# EAGLE library part 120P-BTB (library Traficon)
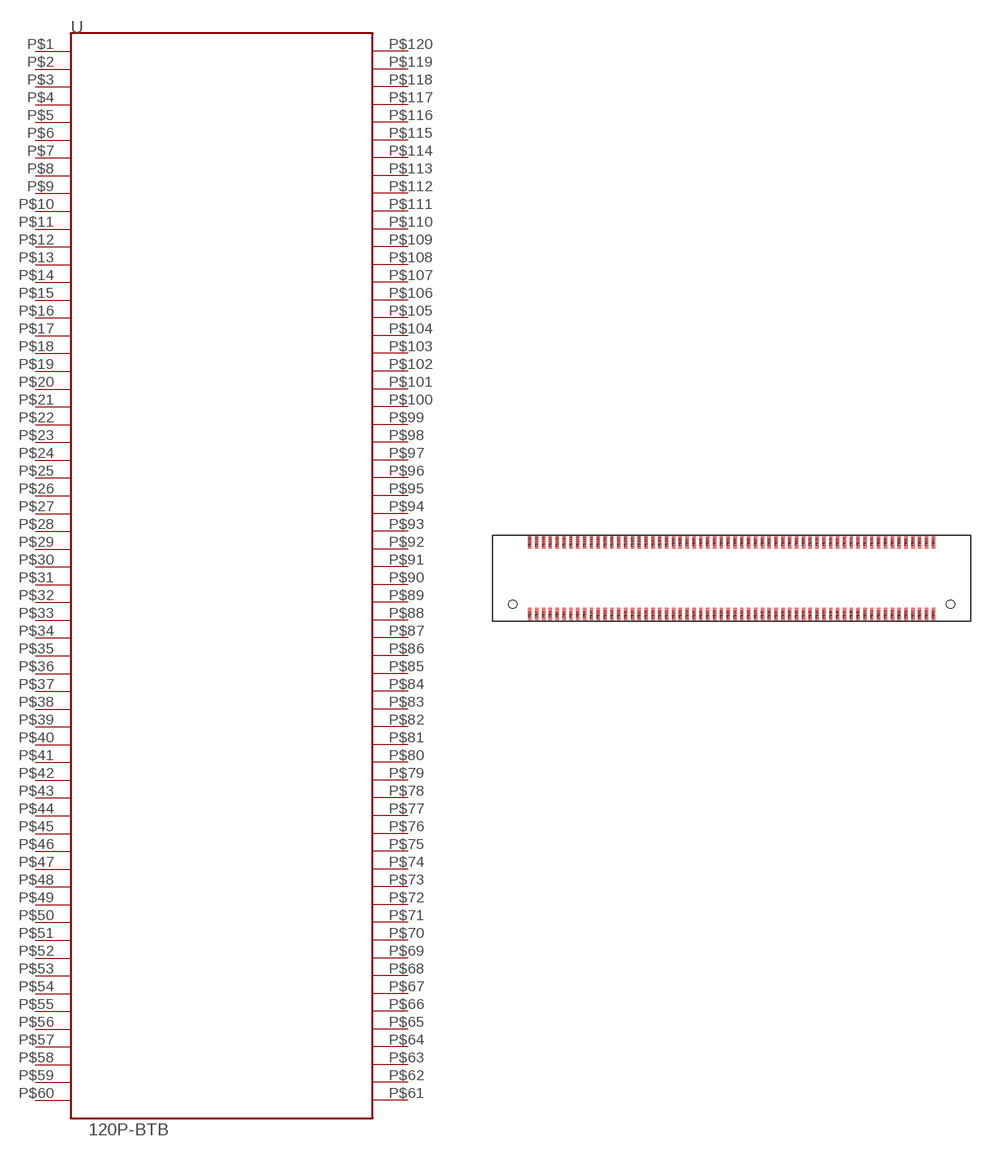
[diagram p117: symbol with the pads of 120P-BTB; footprint 120P-BTB]

Designator prefix -

## 120P-BTB  [120P-BTB]
P$1  1
P$2  3
P$3  5
P$4  7
P$5  9
P$6  11
P$7  13
P$8  15
P$9  17
P$10  19
P$11  21
P$12  23
P$13  25
P$14  27
P$15  29
P$16  31
P$17  33
P$18  35
P$19  37
P$20  39
P$21  41
P$22  43
P$23  45
P$24  47
P$25  49
P$26  51
P$27  53
P$28  55
P$29  57
P$30  59
P$31  61
P$32  63
P$33  65
P$34  67
P$35  69
P$36  71
P$37  73
P$38  75
P$39  77
P$40  79
P$41  81
P$42  83
P$43  85
P$44  87
P$45  89
P$46  91
P$47  93
P$48  95
P$49  97
P$50  99
P$51  101
P$52  103
P$53  105
P$54  107
P$55  109
P$56  111
P$57  113
P$58  115
P$59  117
P$60  119
P$61  120
P$62  118
P$63  116
P$64  114
P$65  112
P$66  110
P$67  108
P$68  106
P$69  104
P$70  102
P$71  100
P$72  98
P$73  96
P$74  94
P$75  92
P$76  90
P$77  88
P$78  86
P$79  84
P$80  82
P$81  80
P$82  78
P$83  76
P$84  74
P$85  72
P$86  70
P$87  68
P$88  66
P$89  64
P$90  62
P$91  60
P$92  58
P$93  56
P$94  54
P$95  52
P$96  50
P$97  48
P$98  46
P$99  44
P$100  42
P$101  40
P$102  38
P$103  36
P$104  34
P$105  32
P$106  30
P$107  28
P$108  26
P$109  24
P$110  22
P$111  20
P$112  18
P$113  16
P$114  14
P$115  12
P$116  10
P$117  8
P$118  6
P$119  4
P$120  2

## Footprint 120P-BTB (pad centres in mm)
smd 0.25 x 1: P$1 0,0; P$2 0.5,0; P$3 1,0; P$4 1.5,0; P$5 2,0; P$6 2.5,0; P$7 3,0; P$8 3.5,0; P$9 4,0; P$10 4.5,0; P$11 5,0; P$12 5.5,0; P$13 6,0; P$14 6.5,0; P$15 7,0; P$16 7.5,0; P$17 8,0; P$18 8.5,0; P$19 9,0; P$20 9.5,0; P$21 10,0; P$22 10.5,0; P$23 11,0; P$24 11.5,0; P$25 12,0; P$26 12.5,0; P$27 13,0; P$28 13.5,0; P$29 14,0; P$30 14.5,0; P$31 15,0; P$32 15.5,0; P$33 16,0; P$34 16.5,0; P$35 17,0; P$36 17.5,0; P$37 18,0; P$38 18.5,0; P$39 19,0; P$40 19.5,0; P$41 20,0; P$42 20.5,0; P$43 21,0; P$44 21.5,0; P$45 22,0; P$46 22.5,0; P$47 23,0; P$48 23.5,0; P$49 24,0; P$50 24.5,0; P$51 25,0; P$52 25.5,0; P$53 26,0; P$54 26.5,0; P$55 27,0; P$56 27.5,0; P$57 28,0; P$58 28.5,0; P$59 29,0; P$60 29.5,0; P$61 29.5,5.3; P$62 29,5.3; P$63 28.5,5.3; P$64 28,5.3; P$65 27.5,5.3; P$66 27,5.3; P$67 26.5,5.3; P$68 26,5.3; P$69 25.5,5.3; P$70 25,5.3; P$71 24.5,5.3; P$72 24,5.3; P$73 23.5,5.3; P$74 23,5.3; P$75 22.5,5.3; P$76 22,5.3; P$77 21.5,5.3; P$78 21,5.3; P$79 20.5,5.3; P$80 20,5.3; P$81 19.5,5.3; P$82 19,5.3; P$83 18.5,5.3; P$84 18,5.3; P$85 17.5,5.3; P$86 17,5.3; P$87 16.5,5.3; P$88 16,5.3; P$89 15.5,5.3; P$90 15,5.3; P$91 14.5,5.3; P$92 14,5.3; P$93 13.5,5.3; P$94 13,5.3; P$95 12.5,5.3; P$96 12,5.3; P$97 11.5,5.3; P$98 11,5.3; P$99 10.5,5.3; P$100 10,5.3; P$101 9.5,5.3; P$102 9,5.3; P$103 8.5,5.3; P$104 8,5.3; P$105 7.5,5.3; P$106 7,5.3; P$107 6.5,5.3; P$108 6,5.3; P$109 5.5,5.3; P$110 5,5.3; P$111 4.5,5.3; P$112 4,5.3; P$113 3.5,5.3; P$114 3,5.3; P$115 2.5,5.3; P$116 2,5.3; P$117 1.5,5.3; P$118 1,5.3; P$119 0.5,5.3; P$120 0,5.3
hole 0.6 at -1.25,0.75
hole 0.6 at -1.25,0.75
hole 0.6 at 30.75,0.75